# Altium schematic symbol library EitLib.SchLib: 60 symbols (part 2 of 3)
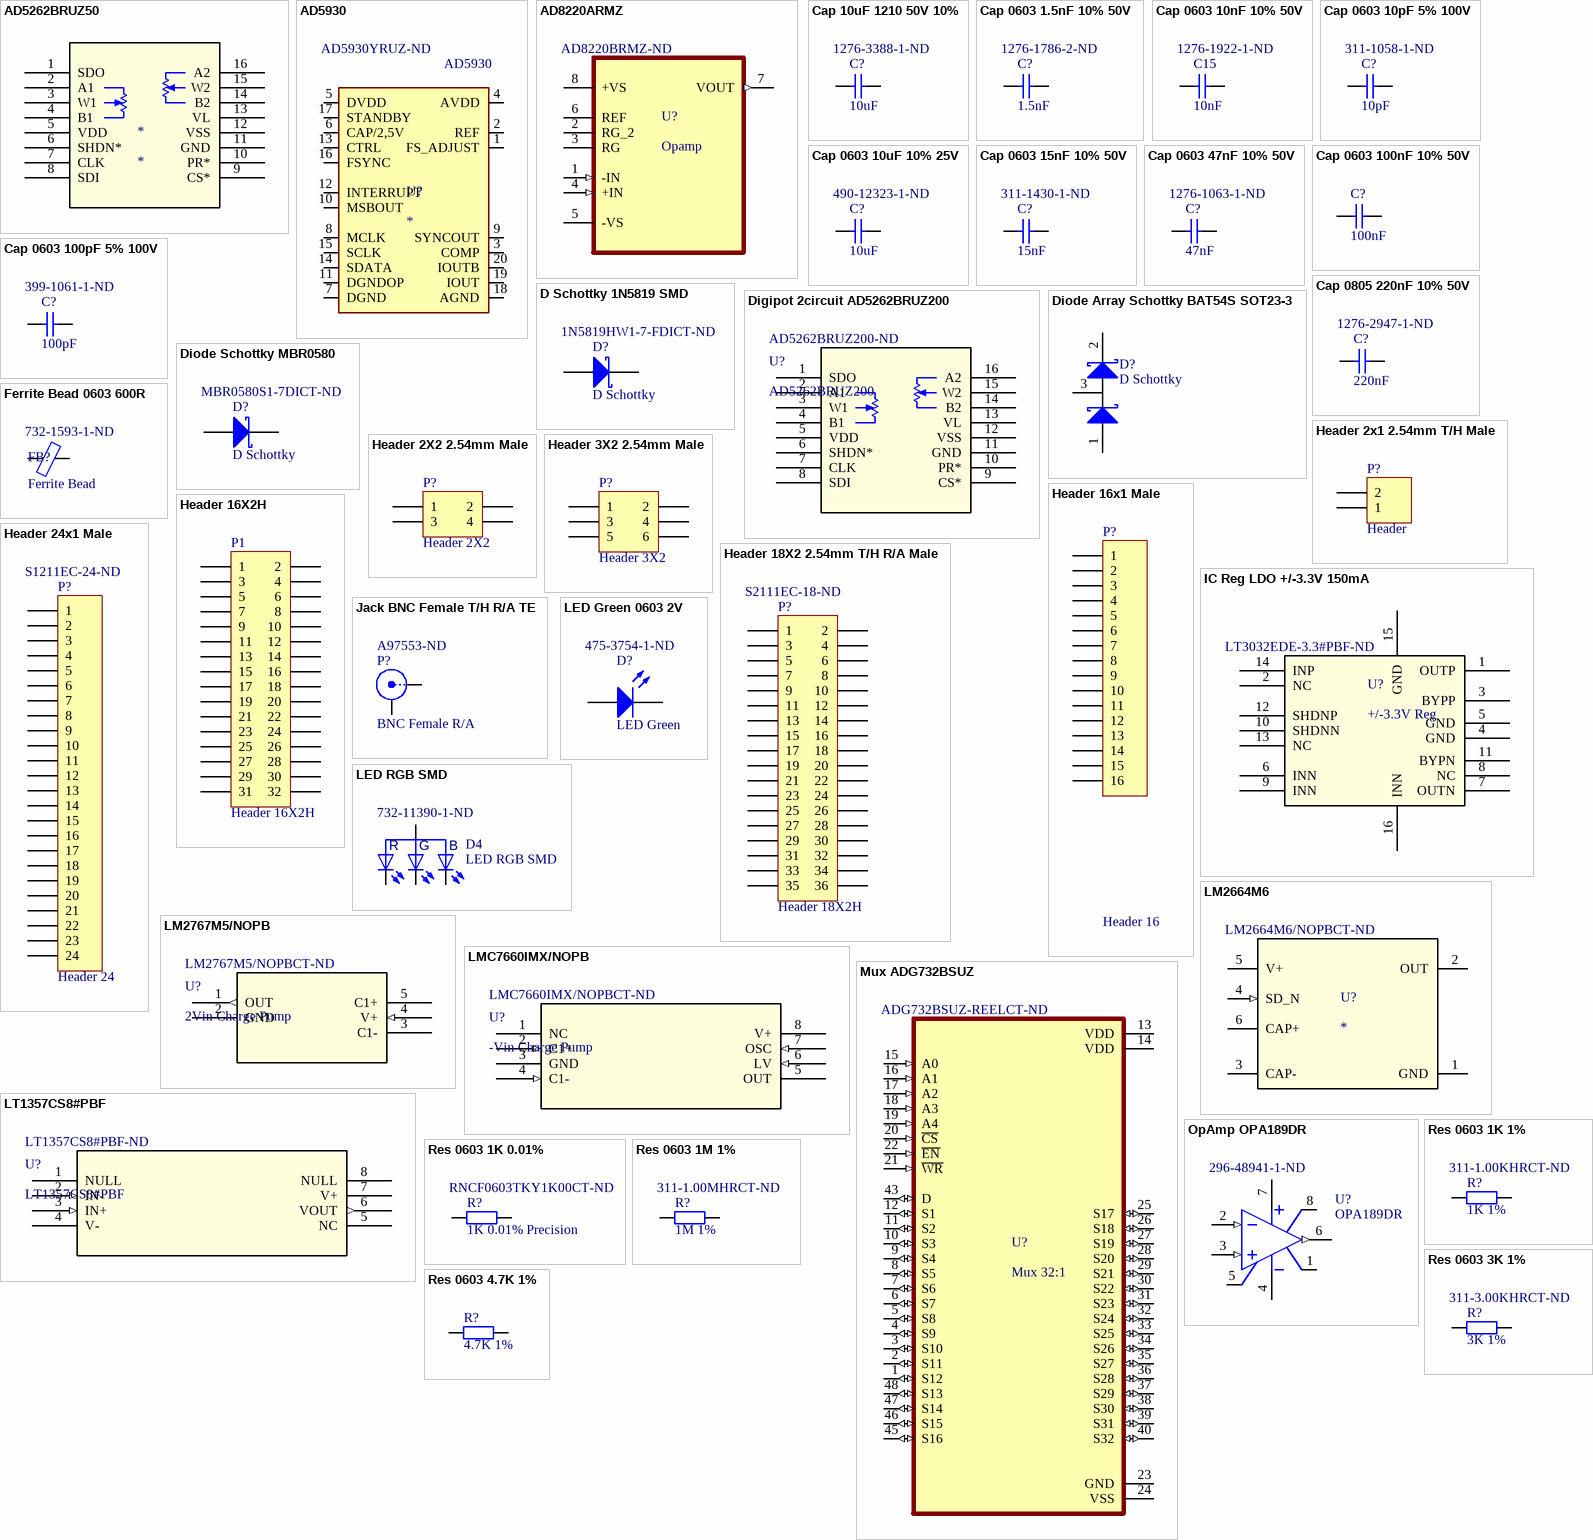
[diagram p2: symbols AD5262BRUZ50 to Res 0603 4.7K 1%]

## LED Green 0603 2V
designator D?, comment LED Green  Supplier Part Number 1: 475-3754-1-ND
LED GREEN DIFFUSED 0603 SMD; Manufacturer: Osram Opto; Manufacturer Part Number: LG Q396-PS-35; Lens Color: White; Luminous Intensity: 163mcd; Test Current: 20mA; Viewing Angle: 120°; Dominant Wavelength: 573nm; Forward Voltage: 2V; Lens Style: Flat,Rectangular; Lens Size: 0.8mm; Supplier 1: Digi-Key; RoHS: Yes; Stock 1: 58559; Pricing 1: 1=0.38000, 10=0.20600, 100=0.09540, 500=0.08808, 1000=0.06900, 2000=0.06754 (USD); Mount: Surface Mount; Case/Package: 0603; Color: Green; Case Code (Imperial): 0603; Case Code (Metric): 1608; Packaging: Tape and Reel; Lens Transparency: Diffused; Forward Current: 20mA; Wavelength: 573nm; Length: 1.6mm; Width: 0.8mm; Height: 0.4mm; RoHS Compliant: Yes; REACH SVHC: No SVHC; ComponentLink1URL: http://www.farnell.com/datasheets/2057314.pdf?src-supplier=Farnell; ComponentLink1Description: http://www.farnell.com/datasheets/2057314.pdf?src-supplier=Farnell; ComponentLink2URL: https://dammedia.osram.info/media/resource/hires/osram-dam-2493948/LG%20Q396.pdf?src-supplier=Digi-Key; ComponentLink2Description: https://dammedia.osram.info/media/resource/hires/osram-dam-2493948/LG%20Q396.pdf?src-supplier=Digi-Key; ComponentLink3URL: http://www.osram-os.com/Graphics/XPic6/00153197_0.pdf?src-supplier=Digi-Key; ComponentLink3Description: http://www.osram-os.com/Graphics/XPic6/00153197_0.pdf?src-supplier=Digi-Key; ComponentLink4URL: http://www.farnell.com/datasheets/2057314.pdf?src-supplier=Element14; ComponentLink4Description: http://www.farnell.com/datasheets/2057314.pdf?src-supplier=Element14; ComponentLink5URL: http://www.farnell.com/datasheets/2057314.pdf?src-supplier=Newark; ComponentLink5Description: http://www.farnell.com/datasheets/2057314.pdf?src-supplier=Newark
simulation model LED2 (Diode)
footprint 0603 LED
pins: 1 A, 2 K

## LED RGB SMD
designator D4  Supplier Part Number 1: 732-11390-1-ND
LED RGB DIFFUSED SMD; Manufacturer: Wurth Electronics; Manufacturer Part Number: 150066M153000; Color: Blue,Green,Red; Lens Style: Flat; Element Configuration: Common Anode; Luminous Intensity: 180mcd; Forward Voltage: 3.3V; Test Current: 20mA; Viewing Angle: 120°; Dominant Wavelength: 470nm; Lens Size: 1.6mm; Supplier 1: Digi-Key; RoHS: Yes; Category: LEDs; Stock 1: 12367; Pricing 1: 1=0.51000, 50=0.41500, 100=0.29800, 500=0.27200 (USD); Mount: Surface Mount; Case/Package: 0606; Case Code (Imperial): 0606; Case Code (Metric): 1616; Packaging: Tape and Reel; Lens Transparency: Diffused; Length: 1.6mm; Width: 1.6mm; Height: 0.5mm; RoHS Compliant: Yes; ComponentLink1URL: http://www.farnell.com/datasheets/2301702.pdf?src-supplier=Farnell; ComponentLink1Description: http://www.farnell.com/datasheets/2301702.pdf?src-supplier=Farnell; ComponentLink2URL: https://katalog.we-online.de/led/datasheet/150066M153000.pdf?src-supplier=Digi-Key; ComponentLink2Description: https://katalog.we-online.de/led/datasheet/150066M153000.pdf?src-supplier=Digi-Key; ComponentLink3URL: http://www.farnell.com/datasheets/2301702.pdf?src-supplier=Newark; ComponentLink3Description: http://www.farnell.com/datasheets/2301702.pdf?src-supplier=Newark; ComponentLink4URL: http://www.farnell.com/datasheets/2301702.pdf?src-supplier=Element14; ComponentLink4Description: http://www.farnell.com/datasheets/2301702.pdf?src-supplier=Element14
footprint LED_RGB
pins: 1 R, 2 G, 3 B, 4 CA

## LM2664M6
designator U?  Supplier Part Number 1: LM2664M6/NOPBCT-ND
1.8V to 5.5Vin Switched Capacitor Voltage Converter 6-SOT-23 -40 to 85; Manufacturer: TI National Semiconductor; Manufacturer Part Number: LM2664M6/NOPB; Output Voltage: -5.5V; Output Current: 40mA; Logic Function: Inverting; Max Supply Voltage: 5.5V; Number of Outputs: 1; Switching Frequency: 160kHz; Output Type: Adjustable; Max Output Voltage: -1.8V; Topology: Buck-Boost; Nominal Supply Current: 500uA; Output Power: 500mW; Max Power Dissipation: 600mW; Supplier 1: Digi-Key; RoHS: Yes; Category: Voltage Regulators - Switching; Stock 1: 18838; Pricing 1: 1=0.95000, 10=0.84000, 25=0.78880, 100=0.59780, 250=0.50880, 500=0.48336 (USD); Mount: Surface Mount; Case/Package: SOT-23; Number of Pins: 6; Min Operating Temperature: -40°C; Max Operating Temperature: 85°C; Min Supply Voltage: 1.8V; Packaging: Tape and Reel; Min Input Voltage: 1.8V; Max Input Voltage: 5.5V; Package Quantity: 1000; Min Output Voltage: -5.5V; Frequency: 160kHz; Max Output Current: 40mA; Termination: SMD/SMT; Length: 2.92mm; Width: 1.6mm; Height: 1.02mm; Radiation Hardening: No; Lead Free: Lead Free; REACH SVHC: No SVHC
footprint DBV0006A_M
pins: 1 GND (power), 2 OUT (power), 3 CAP- (power), 4 SD_N (in), 5 V+ (power), 6 CAP+ (power)

## LM2767M5/NOPB
designator U?, comment 2Vin Charge Pump  Supplier Part Number 1: LM2767M5/NOPBCT-ND
Charge Pump 2Vin 11V; Manufacturer: TI National Semiconductor; Manufacturer Part Number: LM2767M5/NOPB; Max Input Voltage: 5.5V; Output Current: 30mA; Min Input Voltage: 1.8V; Number of Outputs: 1; Max Output Current: 15mA; Switching Frequency: 11kHz; Operating Supply Current: 90uA; Min Output Voltage: 3.6V; Quiescent Current: 40uA; Topology: Boost; Output Type: Adjustable; Supplier 1: Digi-Key; RoHS: Yes; Category: Voltage Regulators - Switching; Stock 1: 34627; Pricing 1: 1=0.91000, 10=0.81600, 25=0.77480, 100=0.59480, 250=0.52564, 500=0.49798 (USD); Mount: Surface Mount; Case/Package: SOT-23; Number of Pins: 5; Weight: 0.000459oz; Contact Plating: Tin,Matte; Min Operating Temperature: -40°C; Max Operating Temperature: 85°C; Output Voltage: 11V; Packaging: Tape and Reel; Min Supply Voltage: 1.8V; Max Supply Voltage: 5.5V; Max Output Voltage: 11V; Series: LM2767; Length: 3mm; Width: 1.68mm; Height: 1.12mm; Radiation Hardening: No; REACH SVHC: No SVHC; Lead Free: Lead Free; RoHS Compliant: Yes; ComponentLink1URL: https://datasheet.ciiva.com/15114/getdatasheetpartid-636131-15114016.pdf?src-supplier=Verical; ComponentLink1Description: https://datasheet.ciiva.com/15114/getdatasheetpartid-636131-15114016.pdf?src-supplier=Verical; ComponentLink2URL: https://datasheet.ciiva.com/25627/0900766b810fa440-25627633.pdf?src-supplier=RSComponents; ComponentLink2Description: https://datasheet.ciiva.com/25627/0900766b810fa440-25627633.pdf?src-supplier=RSComponents; ComponentLink3URL: https://datasheet.ciiva.com/4874/snvs069b-122672-4874873.pdf?src-supplier=Mouser; ComponentLink3Description: https://datasheet.ciiva.com/4874/snvs069b-122672-4874873.pdf?src-supplier=Mouser; ComponentLink4URL: https://datasheet.ciiva.com/6579/lm2767-6579831.pdf?src-supplier=Digi-Key; ComponentLink4Description: https://datasheet.ciiva.com/6579/lm2767-6579831.pdf?src-supplier=Digi-Key; ComponentLink5URL: https://datasheet.ciiva.com/3215/lm2767-3215784.pdf?src-supplier=Avnet; ComponentLink5Description: https://datasheet.ciiva.com/3215/lm2767-3215784.pdf?src-supplier=Avnet; ComponentLink6URL: https://datasheet.ciiva.com/6579/lm2767-6579832.pdf?src-supplier=Digi-Key; ComponentLink6Description: https://datasheet.ciiva.com/6579/lm2767-6579832.pdf?src-supplier=Digi-Key; ComponentLink7URL: https://datasheet.ciiva.com/6579/lm2767-6579833.pdf?src-supplier=Digi-Key; ComponentLink7Description: https://datasheet.ciiva.com/6579/lm2767-6579833.pdf?src-supplier=Digi-Key; ComponentLink8URL: https://datasheet.ciiva.com/3215/lm2767-3215882.pdf?src-supplier=Avnet; ComponentLink8Description: https://datasheet.ciiva.com/3215/lm2767-3215882.pdf?src-supplier=Avnet
footprint SOT-23-5
pins: 1 OUT (out), 2 GND, 3 C1-, 4 V+ (in), 5 C1+

## LMC7660IMX/NOPB
designator U?, comment -Vin Charge Pump  Supplier Part Number 1: LMC7660IMX/NOPBCT-ND
Charge Pump -Vin -10V 8-Pin SOIC T/R; Manufacturer: TI National Semiconductor; Manufacturer Part Number: LMC7660IMX/NOPB; Max Input Voltage: 10V; Min Input Voltage: 1.5V; Number of Outputs: 1; Switching Frequency: 10kHz; Operating Supply Current: 200uA; Max Output Voltage: -1.5V; Logic Function: Inverting; Output Power: 600mW; Quiescent Current: 120uA; Output Current: 20uA; Output Type: Adjustable; Supplier 1: Digi-Key; RoHS: Yes; Category: Voltage Regulators - Switching; Stock 1: 20127; Pricing 1: 1=0.87000, 10=0.78200, 25=0.74200, 100=0.56980, 250=0.50352, 500=0.47700, 1000=0.37100 (USD); Mount: Surface Mount; Case/Package: SOIC N; Number of Pins: 8; Weight: 0.006596oz; Contact Plating: Tin; Min Operating Temperature: -40°C; Max Operating Temperature: 85°C; Output Voltage: -10V; Packaging: Tape and Reel; Min Supply Voltage: 1.5V; Max Supply Voltage: 10V; Min Output Voltage: -10V; Radiation Hardening: No; REACH SVHC: No SVHC; Lead Free: Lead Free; RoHS Compliant: Yes; ComponentLink1URL: https://datasheet.ciiva.com/6598/lmc7660-6598421.pdf?src-supplier=Digi-Key; ComponentLink1Description: https://datasheet.ciiva.com/6598/lmc7660-6598421.pdf?src-supplier=Digi-Key; ComponentLink2URL: https://datasheet.ciiva.com/6598/lmc7660-6598422.pdf?src-supplier=Digi-Key; ComponentLink2Description: https://datasheet.ciiva.com/6598/lmc7660-6598422.pdf?src-supplier=Digi-Key; ComponentLink3URL: https://datasheet.ciiva.com/6598/lmc7660-6598423.pdf?src-supplier=Digi-Key; ComponentLink3Description: https://datasheet.ciiva.com/6598/lmc7660-6598423.pdf?src-supplier=Digi-Key; ComponentLink4URL: https://datasheet.ciiva.com/46433/1841924-46433674.pdf?src-supplier=Element14; ComponentLink4Description: https://datasheet.ciiva.com/46433/1841924-46433674.pdf?src-supplier=Element14
footprint 8-SOIC
pins: 1 NC, 2 C1+ (in), 3 GND (power), 4 C1- (in), 5 OUT (power), 6 LV (in), 7 OSC (in), 8 V+ (power)

## LT1357CS8#PBF
designator U?  Supplier Part Number 1: LT1357CS8#PBF-ND
IC OPAMP VFB 25MHZ 8SO; Manufacturer: Analog Devices / Linear Technology; Vendor: Linear Technology; Built_By: EMA_UL_Team; SourceLibrary: LinearTech_2016_03_08; Slew Rate: 600V/µs; Max Supply Voltage: 36V; Min Supply Voltage: 5V; Number of Circuits: 1; Input Bias Current: 120nA; Input Offset Voltage (Vos): 200uV; Operating Supply Current: 2mA; Output Current per Channel: 30mA; Voltage Gain: 93.06dB; Unity Gain Bandwidth Product: 22MHz; Common Mode Rejection Ratio: 78dB; Min Dual Supply Voltage: 2.5V; Max Dual Supply Voltage: 18V; Power Supply Rejection Ratio (PSRR): 92dB; Power Dissipation: 387mW; Dual Supply Voltage: 3V; Max Supply Current: 2.4mA; Manufacturer_Part_Number: LT1357CS8#PBF; Copyright: Copyright (C) 2018 Accelerated Designs. All rights reserved; RefDes: RefDes; Type: DEV; Supplier 1: Digi-Key; Manufacturer Part Number: LT1357CS8#PBF; RoHS: Yes; Category: Amplifiers - Op Amps, Buffer, Instrumentation; Stock 1: 4499; Pricing 1: 1=6.58000, 10=5.94800, 25=5.67160, 100=4.70320, 250=4.28824, 500=4.01156, 1000=3.65400 (USD); Case/Package: SOIC; Number of Pins: 8; Min Operating Temperature: 0°C; Max Operating Temperature: 70°C; Package Quantity: 100; Packaging: Rail/Tube; Gain Bandwidth Product: 25MHz; Number of Channels: 1; Series: C-Load™; Number of Elements: 1; Nominal Gain Bandwidth Product: 25MHz; Bandwidth: 25MHz; Technology: BIPOLAR; Number of Amplifiers: 1; Max Power Dissipation: 387mW; Supply Current: 2mA; Length: 5mm; Width: 3.99mm; Height: 1.5mm; Lead Free: Lead Free; RoHS Compliant: Yes; REACH SVHC: No SVHC; ComponentLink1URL: https://datasheet.ciiva.com/19464/1734639-19464423.pdf?src-supplier=Jameco; ComponentLink1Description: https://datasheet.ciiva.com/19464/1734639-19464423.pdf?src-supplier=Jameco; ComponentLink2URL: https://datasheet.ciiva.com/26852/lt1357cs8-pbf-26852920.pdf?src-supplier=IIIC; ComponentLink2Description: https://datasheet.ciiva.com/26852/lt1357cs8-pbf-26852920.pdf?src-supplier=IIIC; ComponentLink3URL: https://datasheet.ciiva.com/5704/1599617-5704362.pdf?src-supplier=Farnell; ComponentLink3Description: https://datasheet.ciiva.com/5704/1599617-5704362.pdf?src-supplier=Farnell; ComponentLink4URL: https://datasheet.ciiva.com/14151/tmlt1357xxx-e-14151613.pdf?src-supplier=Distrelec; ComponentLink4Description: https://datasheet.ciiva.com/14151/tmlt1357xxx-e-14151613.pdf?src-supplier=Distrelec
footprint SO-8_S_LIT
pins: 1 NULL, 2 IN- (in), 3 IN+ (in), 4 V- (power), 5 NC, 6 VOUT (out), 7 V+ (power), 8 NULL

## Mux ADG732BSUZ
designator U?, comment Mux 32:1  Supplier Part Number 1: ADG732BSUZ-REELCT-ND
Analog Multiplexer Single 32:1 48-Pin TQFP T/R; Manufacturer: Analog Devices; Manufacturer Part Number: ADG732BSUZ-REEL; Min Supply Voltage: 1.8V; Max Supply Voltage: 5.5V; Number of Inputs: 32; Number of Outputs: 1; Operating Supply Voltage: 5V; Dual Supply Voltage: 2.5V; Bandwidth: 18MHz; Max Power Dissipation: 100uW; On-State Resistance: 5.5R; Operating Supply Current: 10uA; Turn-Off Delay Time: 16ns; Supply Type: Single,Dual; Interface: Parallel; Supplier 1: Digi-Key; RoHS: Yes; Category: Interface ICs; Stock 1: 3425; Pricing 1: 1=12.59000, 10=11.37200, 25=10.84320, 100=9.41510, 250=8.99200, 500=8.19856, 1000=7.48500 (USD); Case/Package: TQFP; Number of Pins: 48; Min Operating Temperature: -40°C; Max Operating Temperature: 85°C; Number of Channels: 32; Package Quantity: 2000; Packaging: Tape and Reel; Number of Circuits: 1; -3db Bandwidth: 18MHz; Logic Function: Multiplexer; Series: -; Lead Free: Contains Lead; RoHS Compliant: Yes; ComponentLink1URL: https://datasheet.ciiva.com/26824/adg732bsuz-reel-26824926.pdf?src-supplier=IIIC; ComponentLink1Description: https://datasheet.ciiva.com/26824/adg732bsuz-reel-26824926.pdf?src-supplier=IIIC; ComponentLink2URL: https://datasheet.ciiva.com/16637/adg726-732-16637530.pdf?src-supplier=Avnet+Europe; ComponentLink2Description: https://datasheet.ciiva.com/16637/adg726-732-16637530.pdf?src-supplier=Avnet+Europe
footprint QFP50P900X900X120-49N
pins: 1 S12 (io), 2 S11 (io), 3 S10 (io), 4 S9 (io), 5 S8 (io), 6 S7 (io), 7 S6 (io), 8 S5 (io), 9 S4 (io), 10 S3 (io), 11 S2 (io), 12 S1 (io), 13 VDD (power), 14 VDD (power), 15 A0 (in), 16 A1 (in), 17 A2 (in), 18 A3 (in), 19 A4 (in), 20 ~{CS} (in), 21 ~{WR} (in), 22 ~{EN} (in), 23 GND (power), 24 VSS (power), 25 S17 (io), 26 S18 (io), 27 S19 (io), 28 S20 (io), 29 S21 (io), 30 S22 (io), 31 S23 (io), 32 S24 (io), 33 S25 (io), 34 S26 (io), 35 S27 (io), 36 S28 (io), 37 S29 (io), 38 S30 (io), 39 S31 (io), 40 S32 (io), 43 D (io), 45 S16 (io), 46 S15 (io), 47 S14 (io), 48 S13 (io)

## OpAmp OPA189DR
designator U?, comment OPA189DR  Supplier Part Number 1: 296-48941-1-ND
36V ZERO DRIFT OP-AMP; Manufacturer: Texas Instruments; Manufacturer Part Number: OPA189IDR; Number of Channels: 1; Slew Rate: 20V/µs; Gain Bandwidth Product: 14MHz; Input Bias Current: 70pA; Input Offset Voltage (Vos): 0.4uV; Operating Supply Current: 1.3mA; Supplier 1: Digi-Key; RoHS: Yes; Category: Amplifiers - Op Amps, Buffer, Instrumentation; Stock 1: 9768; Pricing 1: 1=2.85000, 10=2.56500, 25=2.41960, 100=2.06140, 250=1.93556, 500=1.69362, 1000=1.52471 (USD); Mount: Surface Mount; Case/Package: SOIC; Number of Pins: 8; Min Operating Temperature: -40°C; Max Operating Temperature: 125°C; Packaging: Tape and Reel; Number of Circuits: 1; RoHS Compliant: Yes; ComponentLink1URL: http://www.ti.com/lit/ds/symlink/opa189.pdf?src-supplier=Digi-Key; ComponentLink1Description: http://www.ti.com/lit/ds/symlink/opa189.pdf?src-supplier=Digi-Key
simulation model AD645A (Spice Subcircuit)
footprint 8-SOIC
pins: 1 OS NUL, 2 IN- (in), 3 IN+ (in), 4 V- (power), 5 OS NUL, 6 OUT (out), 7 V+ (power), 8 TAB

## Res 0603 1K 0.01%
designator R?, comment 1K 0.01% Precision  Supplier Part Number 1: RNCF0603TKY1K00CT-ND
RES 1K OHM 0.01% 1/10W 0603; Manufacturer: Stackpole Electronics; Manufacturer Part Number: RNCF0603TKY1K00; Resistance: 1kR; Max Power Dissipation: 100mW; Temperature Coefficient: 5ppm/°C; Supplier 1: Digi-Key; RoHS: Yes; Category: Chip SMD Resistors; Stock 1: 31380; Pricing 1: 1=1.86000, 10=1.65000, 100=1.26000 (USD); Mount: Surface Mount; Case/Package: 0603; Case Code (Metric): 1608; Case Code (Imperial): 0603; Min Operating Temperature: -55°C; Max Operating Temperature: 155°C; Tolerance: 0.01%; Packaging: Tape and Reel; Resistor Type: Thin Film; Number of Terminations: 2; Features: Moisture Resistant; Series: RNCF; Length: 0.063inch; Width: 0.031inch; Height: 0.022inch; Lead Free: Lead Free; RoHS Compliant: Yes; ComponentLink1URL: https://www.seielect.com/catalog/SEI-Packaging.pdf?src-supplier=Digi-Key; ComponentLink1Description: https://www.seielect.com/catalog/SEI-Packaging.pdf?src-supplier=Digi-Key
footprint 0603 RES
simulation model RESISTOR (Resistor)
signal-integrity model Res
pins: 1, 2

## Res 0603 1K 1%
designator R?, comment 1K 1%  Supplier Part Number 1: 311-1.00KHRCT-ND
RES SMD 1K OHM 1% 1/10W 0603; Manufacturer: Yageo; Manufacturer Part Number: RC0603FR-071KL; Power Rating: 100mW; Resistance: 1kR; Voltage Rating: 50V; Temperature Coefficient: 100ppm/°C; Supplier 1: Digi-Key; RoHS: Yes; Category: Chip SMD Resistors; Stock 1: 23578085; Pricing 1: 1=0.10000, 10=0.02400, 100=0.00970, 1000=0.00436, 2500=0.00378 (USD); Case/Package: 0603; Case Code (Imperial): 0603; Case Code (Metric): 1608; Size Code: 0603; Contact Plating: Tin,Matte; Min Operating Temperature: -55°C; Max Operating Temperature: 155°C; Tolerance: 1%; Packaging: Tape and Reel; Termination: SMD/SMT; Resistor Type: Thick Film; Features: Moisture Resistant; Series: RC; Max Power Dissipation: 100mW; Number of Terminations: 2; Resistance Tolerance: 1%; Construction: Rectangular; Technology: THICK FILM; Length: 1.6mm; Height: 0.45mm; Depth: 0.8mm; Radiation Hardening: No; REACH SVHC: No SVHC; Military Standard: Not; Lead Free: Lead Free; RoHS Compliant: Yes; ComponentLink1URL: https://datasheet.ciiva.com/8896/pyu-rc0603-51-rohs-l-4-8896106.pdf?src-supplier=Avnet; ComponentLink1Description: https://datasheet.ciiva.com/8896/pyu-rc0603-51-rohs-l-4-8896106.pdf?src-supplier=Avnet
footprint 0603 RES
simulation model RESISTOR (Resistor)
signal-integrity model Res
pins: 1, 2

## Res 0603 1M 1%
designator R?, comment 1M 1%  Supplier Part Number 1: 311-1.00MHRCT-ND
Yageo RC Series Thick Film Surface Mount Resistor 0603 Case 1M 1% 0.1W 100ppm/C; Manufacturer Part Number: RC0603FR-071ML; Voltage Rating: 75V; Voltage Rating (DC): 50V; Resistance: 1MR; Power Rating: 100mW; Temperature Coefficient: 100ppm/°C; Application(s): HIGH RELIABILITY; Supplier 1: Digi-Key; Manufacturer: Yageo; RoHS: Yes; Category: Chip SMD Resistors; Stock 1: 4599128; Pricing 1: 1=0.10000, 10=0.02400, 100=0.00970, 1000=0.00436, 2500=0.00378 (USD); Case/Package: 0603; Number of Pins: 2; Case Code (Imperial): 0603; Case Code (Metric): 1608; Weight: 0.000847oz; Min Operating Temperature: -55°C; Max Operating Temperature: 155°C; Tolerance: 1%; Packaging: Cut Tape; Package Quantity: 5000; Termination: SMD/SMT; Resistor Type: Thick Film; Series: RC; Technology: THICK FILM; Type: General Purpose; Length: 1.6mm; Width: 0.8mm; Height: 0.45mm; Depth: 0.8mm; REACH SVHC: No SVHC; Military Standard: Not; Lead Free: Lead Free; RoHS Compliant: Yes; ComponentLink1URL: https://datasheet.ciiva.com/11819/0900766b80f96399-11819295.pdf?src-supplier=RSComponents; ComponentLink1Description: https://datasheet.ciiva.com/11819/0900766b80f96399-11819295.pdf?src-supplier=RSComponents; ComponentLink2URL: https://datasheet.ciiva.com/12555/rc0603-272842-12555388.pdf?src-supplier=Mouser; ComponentLink2Description: https://datasheet.ciiva.com/12555/rc0603-272842-12555388.pdf?src-supplier=Mouser
footprint 0603 RES
simulation model RESISTOR (Resistor)
signal-integrity model Res
pins: 1, 2

## Res 0603 3K 1%
designator R?, comment 3K 1%  Supplier Part Number 1: 311-3.00KHRCT-ND
Res Thick Film 0603 3K Ohm 1% 0.1W(1/10W) ±100ppm/C Pad SMD T/R; Manufacturer: Yageo; Manufacturer Part Number: RC0603FR-073KL; Resistance: 3kR; Power Rating: 100mW; Voltage Rating: 50V; Temperature Coefficient: 100ppm/°C; Supplier 1: Digi-Key; RoHS: Yes; Category: Chip SMD Resistors; Stock 1: 1025416; Pricing 1: 1=0.10000, 10=0.02400, 100=0.00970, 1000=0.00436, 2500=0.00378 (USD); Case/Package: 0603; Number of Pins: 2; Case Code (Imperial): 0603; Case Code (Metric): 1608; Size Code: 0603; Min Operating Temperature: -55°C; Max Operating Temperature: 155°C; Tolerance: 1%; Packaging: Tape and Reel; Termination: SMD/SMT; Resistor Type: Thick Film; Voltage Rating (DC): 50V; Features: Moisture Resistant; Series: RC; Max Power Dissipation: 100mW; Number of Terminations: 2; Construction: Rectangular; Resistance Tolerance: 1%; Length: 1.6mm; Width: 800um; Depth: 0.8mm; Military Standard: Not; Lead Free: Lead Free; RoHS Compliant: Yes; REACH SVHC: No SVHC; ComponentLink1URL: http://www.mouser.com/ds/2/447/RC0603-272842.pdf?src-supplier=Mouser; ComponentLink1Description: http://www.mouser.com/ds/2/447/RC0603-272842.pdf?src-supplier=Mouser; ComponentLink2URL: http://www.farnell.com/datasheets/2167052.pdf?src-supplier=Farnell; ComponentLink2Description: http://www.farnell.com/datasheets/2167052.pdf?src-supplier=Farnell; ComponentLink3URL: https://www.verical.com/server-webapp/html/getDatasheet?partID=135099&src-supplier=Verical; ComponentLink3Description: https://www.verical.com/server-webapp/html/getDatasheet?partID=135099&src-supplier=Verical; ComponentLink4URL: http://components.arrow.com/part/dataview/0323_00200942?src-supplier=Arrow+Europe; ComponentLink4Description: http://components.arrow.com/part/dataview/0323_00200942?src-supplier=Arrow+Europe; ComponentLink5URL: http://www.yageo.com/documents/recent/PYu-RC_Group_51_RoHS_L_9.pdf?src-supplier=Digi-Key; ComponentLink5Description: http://www.yageo.com/documents/recent/PYu-RC_Group_51_RoHS_L_9.pdf?src-supplier=Digi-Key; ComponentLink6URL: http://www.yageo.com/documents/recent/PYu-RC_Group_51_RoHS_L_10.pdf?src-supplier=Digi-Key; ComponentLink6Description: http://www.yageo.com/documents/recent/PYu-RC_Group_51_RoHS_L_10.pdf?src-supplier=Digi-Key; ComponentLink7URL: http://www.farnell.com/datasheets/1868787.pdf?src-supplier=Newark; ComponentLink7Description: http://www.farnell.com/datasheets/1868787.pdf?src-supplier=Newark; ComponentLink8URL: http://www.yageo.com/documents/recent/PYu-RC0603_51_RoHS_L_7.pdf?src-supplier=Future+Electronics; ComponentLink8Description: http://www.yageo.com/documents/recent/PYu-RC0603_51_RoHS_L_7.pdf?src-supplier=Future+Electronics; ComponentLink9URL: http://www.farnell.com/datasheets/2167052.pdf?src-supplier=Element14; ComponentLink9Description: http://www.farnell.com/datasheets/2167052.pdf?src-supplier=Element14
footprint 0603 RES
simulation model RESISTOR (Resistor)
signal-integrity model Res
pins: 1, 2

## Res 0603 4.7K 1%
designator R?, comment 4.7K 1%
RES SMD 4.7K OHM 1% 1/10W 0603; Manufacturer: Yageo; Manufacturer Part Number: RC0603FR-074K7L; Resistance: 4.7kR; Voltage Rating (DC): 50V; Temperature Coefficient: 100ppm/°C; Power Rating: 100mW; Supplier 1: Digi-Key; RoHS: Yes; Category: Chip SMD Resistors; Stock 1: 7608467; Pricing 1: 1=0.10000, 10=0.02400, 100=0.00970, 1000=0.00436, 2500=0.00378 (USD); Case/Package: 0603; Number of Pins: 2; Case Code (Imperial): 0603; Case Code (Metric): 1608; Size Code: 0603; Min Operating Temperature: -55°C; Max Operating Temperature: 155°C; Packaging: Tape and Reel; Tolerance: 1%; Resistor Type: Thick Film; Voltage Rating: 50V; Termination: SMD/SMT; Features: Moisture Resistant; Series: RC; Max Power Dissipation: 100mW; Number of Terminations: 2; Construction: Rectangular; Resistance Tolerance: 1%; Length: 1.6mm; Width: 0.8mm; Height: 0.45mm; Depth: 0.8mm; Lead Pitch: 0.3mm; REACH SVHC: No SVHC; Lead Free: Lead Free; Military Standard: Not; RoHS Compliant: Yes; ComponentLink1URL: https://datasheet.ciiva.com/15189/getdatasheetpartid-422754-15189760.pdf?src-supplier=Verical; ComponentLink1Description: https://datasheet.ciiva.com/15189/getdatasheetpartid-422754-15189760.pdf?src-supplier=Verical; ComponentLink2URL: https://datasheet.ciiva.com/22747/443971-22747528.pdf?src-supplier=Element14; ComponentLink2Description: https://datasheet.ciiva.com/22747/443971-22747528.pdf?src-supplier=Element14; ComponentLink3URL: https://datasheet.ciiva.com/7746/1868787-7746365.pdf?src-supplier=Element14; ComponentLink3Description: https://datasheet.ciiva.com/7746/1868787-7746365.pdf?src-supplier=Element14; ComponentLink4URL: https://datasheet.ciiva.com/7746/1738695-7746366.pdf?src-supplier=Element14; ComponentLink4Description: https://datasheet.ciiva.com/7746/1738695-7746366.pdf?src-supplier=Element14; ComponentLink5URL: https://datasheet.ciiva.com/46440/1868787-46440909.pdf?src-supplier=Element14; ComponentLink5Description: https://datasheet.ciiva.com/46440/1868787-46440909.pdf?src-supplier=Element14; ComponentLink6URL: https://datasheet.ciiva.com/7660/38590-7660794.pdf?src-supplier=Element14; ComponentLink6Description: https://datasheet.ciiva.com/7660/38590-7660794.pdf?src-supplier=Element14; Supplier Part Number 1: 311-4.70KHRCT-ND
footprint 0603 RES
simulation model RESISTOR (Resistor)
signal-integrity model Res
pins: 1, 2

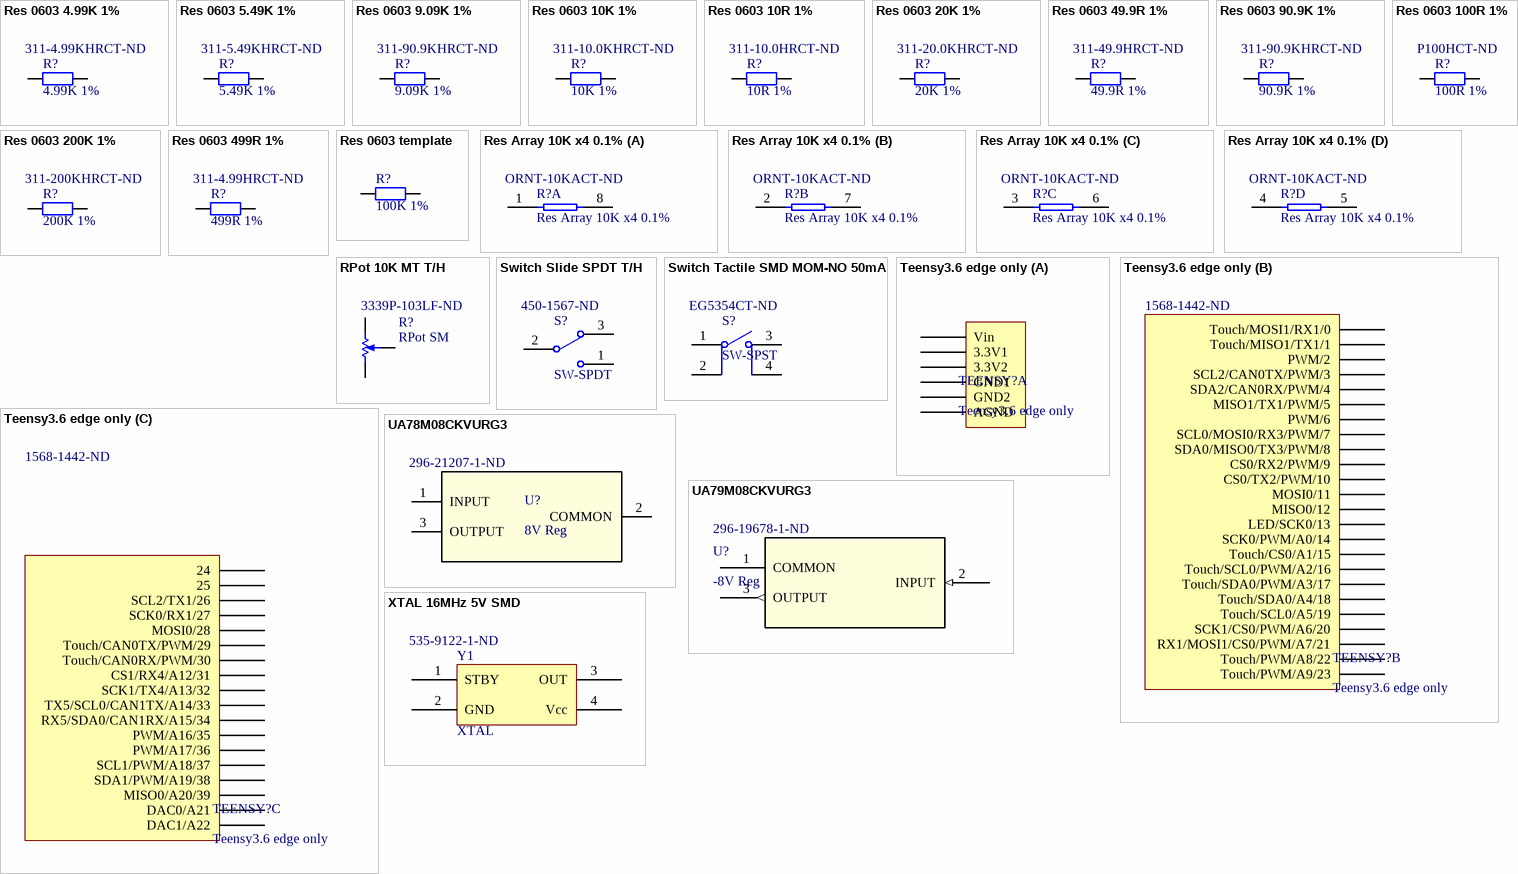
[diagram p1: symbols Res 0603 4.99K 1% to XTAL 16MHz 5V SMD]

## Res 0603 4.99K 1%
designator R?, comment 4.99K 1%  Supplier Part Number 1: 311-4.99KHRCT-ND
YAGEO - RC0603FR-074K99L - RES, THICK FILM, 4K99, 1%, 0.1W, 0603, REEL; Resistance: 4.99kR; Voltage Rating: 75V; Power Rating: 100mW; Temperature Coefficient: 100ppm/°C; Voltage Rating (DC): 50V; Supplier 1: Digi-Key; Manufacturer: Yageo; Manufacturer Part Number: RC0603FR-074K99L; RoHS: Yes; Category: Chip SMD Resistors; Stock 1: 1244920; Pricing 1: 1=0.10000, 10=0.02400, 100=0.00970, 1000=0.00436, 2500=0.00378 (USD); Case/Package: 0603; Number of Pins: 2; Case Code (Imperial): 0603; Case Code (Metric): 1608; Size Code: 0603; Weight: 7.1E-05oz; Min Operating Temperature: -55°C; Max Operating Temperature: 155°C; Packaging: Tape and Reel; Tolerance: 1%; Package Quantity: 1; Termination: SMD/SMT; Resistor Type: Thick Film; Number of Terminations: 2; Max Power Dissipation: 100mW; Features: Moisture Resistant; Series: RC; Construction: Rectangular; Resistance Tolerance: 1%; Length: 1.6mm; Width: 0.8mm; Height: 0.022inch; Depth: 0.8mm; Military Standard: Not; Lead Free: Lead Free; RoHS Compliant: Yes; REACH SVHC: Unknown; ComponentLink1URL: https://datasheet.ciiva.com/2453/pyu-r-int-thick-7-2453979.pdf?src-supplier=Digi-Key; ComponentLink1Description: https://datasheet.ciiva.com/2453/pyu-r-int-thick-7-2453979.pdf?src-supplier=Digi-Key; ComponentLink2URL: https://datasheet.ciiva.com/2453/pyu-r-int-thick-7-2453980.pdf?src-supplier=Digi-Key; ComponentLink2Description: https://datasheet.ciiva.com/2453/pyu-r-int-thick-7-2453980.pdf?src-supplier=Digi-Key; ComponentLink3URL: https://datasheet.ciiva.com/2453/pyu-r-int-thick-7-2453981.pdf?src-supplier=Digi-Key; ComponentLink3Description: https://datasheet.ciiva.com/2453/pyu-r-int-thick-7-2453981.pdf?src-supplier=Digi-Key; ComponentLink4URL: https://datasheet.ciiva.com/7983/443971-7983646.pdf?src-supplier=Element14; ComponentLink4Description: https://datasheet.ciiva.com/7983/443971-7983646.pdf?src-supplier=Element14; ComponentLink5URL: https://datasheet.ciiva.com/22747/443971-22747529.pdf?src-supplier=Element14; ComponentLink5Description: https://datasheet.ciiva.com/22747/443971-22747529.pdf?src-supplier=Element14
footprint 0603 RES
simulation model RESISTOR (Resistor)
signal-integrity model Res
pins: 1, 2

## Res 0603 5.49K 1%
designator R?, comment 5.49K 1%  Supplier Part Number 1: 311-5.49KHRCT-ND
Resistor;Resistance:5K49ohm;Resistance Tolerance:± 1%;Resistor Element Material:Thick Film;Resistor Case Style:0603; Manufacturer: Yageo; Manufacturer Part Number: RC0603FR-075K49L; Power Rating: 100mW; Resistance: 5.49kR; Voltage Rating: 50V; Temperature Coefficient: 100ppm/°C; Supplier 1: Digi-Key; RoHS: Yes; Category: Chip SMD Resistors; Stock 1: 713644; Pricing 1: 1=0.10000, 10=0.02400, 100=0.00970, 1000=0.00436, 2500=0.00378 (USD); Case/Package: 0603; Case Code (Imperial): 0603; Case Code (Metric): 1608; Size Code: 0603; Min Operating Temperature: -55°C; Max Operating Temperature: 155°C; Tolerance: 1%; Packaging: Tape and Reel; Termination: SMD/SMT; Resistor Type: Thick Film; Number of Terminations: 2; Max Power Dissipation: 100mW; Voltage Rating (DC): 50V; Features: Moisture Resistant; Series: RC; Construction: Rectangular; Package Quantity: 1; Length: 1.6mm; Width: 0.8mm; Height: 0.022inch; Depth: 0.8mm; Military Standard: Not; Lead Free: Lead Free; RoHS Compliant: Yes; ComponentLink1URL: https://datasheet.ciiva.com/2454/pyu-r-int-thick-7-2454378.pdf?src-supplier=Digi-Key; ComponentLink1Description: https://datasheet.ciiva.com/2454/pyu-r-int-thick-7-2454378.pdf?src-supplier=Digi-Key; ComponentLink2URL: https://datasheet.ciiva.com/2454/pyu-r-int-thick-7-2454379.pdf?src-supplier=Digi-Key; ComponentLink2Description: https://datasheet.ciiva.com/2454/pyu-r-int-thick-7-2454379.pdf?src-supplier=Digi-Key; ComponentLink3URL: https://datasheet.ciiva.com/2454/pyu-r-int-thick-7-2454380.pdf?src-supplier=Digi-Key; ComponentLink3Description: https://datasheet.ciiva.com/2454/pyu-r-int-thick-7-2454380.pdf?src-supplier=Digi-Key; ComponentLink4URL: https://datasheet.ciiva.com/12558/rc0603-272842-12558872.pdf?src-supplier=Mouser; ComponentLink4Description: https://datasheet.ciiva.com/12558/rc0603-272842-12558872.pdf?src-supplier=Mouser
footprint 0603 RES
simulation model RESISTOR (Resistor)
signal-integrity model Res
pins: 1, 2

## Res 0603 9.09K 1%
designator R?, comment 9.09K 1%  Supplier Part Number 1: 311-90.9KHRCT-ND
Res Thick Film 0603 90.9K Ohm 1% 0.1W(1/10W) ±100ppm/C Epoxy SMD T/R; Manufacturer: Yageo; Manufacturer Part Number: RC0603FR-0790K9L; Resistance: 90.9kR; Voltage Rating (DC): 50V; Power Rating: 100mW; Voltage Rating: 75V; Temperature Coefficient: 100ppm/°C; Supplier 1: Digi-Key; RoHS: Yes; Category: Chip SMD Resistors; Stock 1: 655755; Pricing 1: 1=0.10000, 10=0.02400, 100=0.00970, 1000=0.00436, 2500=0.00378 (USD); Case/Package: 0603; Case Code (Imperial): 0603; Case Code (Metric): 1608; Weight: 7.1E-05oz; Size Code: 0603; Min Operating Temperature: -55°C; Max Operating Temperature: 155°C; Tolerance: 1%; Packaging: Tape and Reel; Features: Moisture Resistant; Series: RC; Termination: SMD/SMT; Resistor Type: Thick Film; Max Power Dissipation: 100mW; Number of Terminations: 2; Construction: Rectangular; Length: 1.6mm; Width: 0.8mm; Height: 0.45mm; Depth: 0.8mm; Lead Free: Lead Free; RoHS Compliant: Yes; Military Standard: Not; ComponentLink1URL: https://datasheet.ciiva.com/15189/getdatasheetpartid-325203-15189835.pdf?src-supplier=Verical; ComponentLink1Description: https://datasheet.ciiva.com/15189/getdatasheetpartid-325203-15189835.pdf?src-supplier=Verical
footprint 0603 RES
simulation model RESISTOR (Resistor)
signal-integrity model Res
pins: 1, 2

## Res 0603 10K 1%
designator R?, comment 10K 1%  Supplier Part Number 1: 311-10.0KHRCT-ND
Res General Purpose Thick Film 0603 10K Ohm 1% 1/10W ±100ppm/°C Molded SMD Paper T/R; Manufacturer: Yageo; Manufacturer Part Number: RC0603FR-0710KL; Voltage Rating: 75V; Resistance: 10kR; Power Rating: 100mW; Voltage Rating (DC): 50V; Supplier 1: Digi-Key; RoHS: Yes; Category: Chip SMD Resistors; Stock 1: 18430741; Pricing 1: 1=0.10000, 10=0.02400, 100=0.00970, 1000=0.00436, 2500=0.00378 (USD); Case/Package: 0603; Number of Pins: 2; Case Code (Imperial): 0603; Case Code (Metric): 1608; Size Code: 0603; Weight: 7.1E-05oz; Min Operating Temperature: -55°C; Max Operating Temperature: 155°C; Packaging: Tape and Reel; Tolerance: 1%; Termination: SMD/SMT; Resistor Type: Thick Film; Temperature Coefficient: 100ppm/°C; Features: Moisture Resistant; Series: RC; Max Power Dissipation: 100mW; Number of Terminations: 2; Resistance Tolerance: 1%; Construction: Rectangular; Length: 1.6mm; Width: 0.8mm; Height: 0.45mm; Depth: 0.8mm; Lead Pitch: 0.3mm; REACH SVHC: Unknown; Military Standard: Not; Lead Free: Lead Free; RoHS Compliant: Yes; ComponentLink1URL: https://datasheet.ciiva.com/15189/getdatasheetpartid-409289-15189591.pdf?src-supplier=Verical; ComponentLink1Description: https://datasheet.ciiva.com/15189/getdatasheetpartid-409289-15189591.pdf?src-supplier=Verical; ComponentLink2URL: https://datasheet.ciiva.com/7660/38590-7660789.pdf?src-supplier=Element14; ComponentLink2Description: https://datasheet.ciiva.com/7660/38590-7660789.pdf?src-supplier=Element14; ComponentLink3URL: https://datasheet.ciiva.com/7746/1738695-7746239.pdf?src-supplier=Element14; ComponentLink3Description: https://datasheet.ciiva.com/7746/1738695-7746239.pdf?src-supplier=Element14; ComponentLink4URL: https://datasheet.ciiva.com/7983/443971-7983596.pdf?src-supplier=Element14; ComponentLink4Description: https://datasheet.ciiva.com/7983/443971-7983596.pdf?src-supplier=Element14; ComponentLink5URL: https://datasheet.ciiva.com/22747/443971-22747519.pdf?src-supplier=Element14; ComponentLink5Description: https://datasheet.ciiva.com/22747/443971-22747519.pdf?src-supplier=Element14; ComponentLink6URL: https://datasheet.ciiva.com/46440/1868787-46440891.pdf?src-supplier=Element14; ComponentLink6Description: https://datasheet.ciiva.com/46440/1868787-46440891.pdf?src-supplier=Element14
footprint 0603 RES
simulation model RESISTOR (Resistor)
signal-integrity model Res
pins: 1, 2

## Res 0603 10R 1%
designator R?, comment 10R 1%  Supplier Part Number 1: 311-10.0HRCT-ND
YAGEO (PHYCOMP) - RC0603FR-0710RL - RES, THICK FILM, 10R, 1%, 0.1W, 0603; Power Rating: 100mW; Voltage Rating: 50V; Temperature Coefficient: 200ppm/°C; Supplier 1: Digi-Key; Manufacturer: Yageo; Manufacturer Part Number: RC0603FR-0710RL; RoHS: Yes; Category: Chip SMD Resistors; Stock 1: 5330199; Pricing 1: 1=0.10000, 10=0.04800, 100=0.01940, 1000=0.00872, 2500=0.00756 (USD); Case/Package: 0603; Number of Pins: 2; Case Code (Imperial): 0603; Case Code (Metric): 1608; Size Code: 0603; Contact Plating: Tin,Matte; Min Operating Temperature: -55°C; Max Operating Temperature: 155°C; Packaging: Tape and Reel; Resistance: 10R; Tolerance: 1%; Voltage Rating (DC): 50V; Termination: SMD/SMT; Resistor Type: Thick Film; Features: Moisture Resistant; Series: RC; Max Power Dissipation: 100mW; Number of Terminations: 2; Resistance Tolerance: 1%; Technology: THICK FILM; Construction: Rectangular; Length: 1.6mm; Width: 0.8mm; Height: 0.45mm; Depth: 0.8mm; Radiation Hardening: No; REACH SVHC: No SVHC; Lead Free: Lead Free; RoHS Compliant: Yes; Military Standard: Not; ComponentLink1URL: https://datasheet.ciiva.com/11808/0900766b80f96399-11808140.pdf?src-supplier=RSComponents; ComponentLink1Description: https://datasheet.ciiva.com/11808/0900766b80f96399-11808140.pdf?src-supplier=RSComponents; ComponentLink2URL: https://datasheet.ciiva.com/8891/pyu-rc0603-51-rohs-l-4-8891285.pdf?src-supplier=Avnet; ComponentLink2Description: https://datasheet.ciiva.com/8891/pyu-rc0603-51-rohs-l-4-8891285.pdf?src-supplier=Avnet; ComponentLink3URL: https://datasheet.ciiva.com/28386/pyu-rc0603-51-rohs-l-4-28386637.pdf?src-supplier=Avnet+Europe; ComponentLink3Description: https://datasheet.ciiva.com/28386/pyu-rc0603-51-rohs-l-4-28386637.pdf?src-supplier=Avnet+Europe; ComponentLink4URL: https://datasheet.ciiva.com/7746/443971-7746245.pdf?src-supplier=Element14; ComponentLink4Description: https://datasheet.ciiva.com/7746/443971-7746245.pdf?src-supplier=Element14
footprint 0603 RES
simulation model RESISTOR (Resistor)
signal-integrity model Res
pins: 1, 2

## Res 0603 20K 1%
designator R?, comment 20K 1%  Supplier Part Number 1: 311-20.0KHRCT-ND
Res General Purpose Thick Film 0603 20K Ohm 1% 1/10W ±100ppm/°C Molded SMD Paper T/R; Manufacturer: Yageo; Manufacturer Part Number: RC0603FR-0720KL; Resistance: 20kR; Voltage Rating (DC): 50V; Power Rating: 100mW; Supplier 1: Digi-Key; RoHS: Yes; Category: Chip SMD Resistors; Stock 1: 2390662; Pricing 1: 1=0.10000, 10=0.02400, 100=0.00970, 1000=0.00436, 2500=0.00378 (USD); Case/Package: 0603; Number of Pins: 2; Case Code (Imperial): 0603; Case Code (Metric): 1608; Size Code: 0603; Min Operating Temperature: -55°C; Max Operating Temperature: 155°C; Packaging: Tape and Reel; Tolerance: 1%; Resistor Type: Thick Film; Temperature Coefficient: 100ppm/°C; Voltage Rating: 50V; Package Quantity: 1; Termination: SMD/SMT; Number of Terminations: 2; Max Power Dissipation: 100mW; Features: Moisture Resistant; Series: RC; Construction: Rectangular; Resistance Tolerance: 1%; Technology: THICK FILM; Length: 0.063inch; Width: 0.031inch; Height: 0.022inch; Depth: 0.8mm; Lead Free: Lead Free; REACH SVHC: No SVHC; Military Standard: Not; RoHS Compliant: Yes; ComponentLink1URL: https://datasheet.ciiva.com/11808/0900766b80f96399-11808275.pdf?src-supplier=RSComponents; ComponentLink1Description: https://datasheet.ciiva.com/11808/0900766b80f96399-11808275.pdf?src-supplier=RSComponents; ComponentLink2URL: https://datasheet.ciiva.com/2453/pyu-r-int-thick-7-2453910.pdf?src-supplier=Digi-Key; ComponentLink2Description: https://datasheet.ciiva.com/2453/pyu-r-int-thick-7-2453910.pdf?src-supplier=Digi-Key; ComponentLink3URL: https://datasheet.ciiva.com/2453/pyu-r-int-thick-7-2453911.pdf?src-supplier=Digi-Key; ComponentLink3Description: https://datasheet.ciiva.com/2453/pyu-r-int-thick-7-2453911.pdf?src-supplier=Digi-Key; ComponentLink4URL: https://datasheet.ciiva.com/2453/pyu-r-int-thick-7-2453912.pdf?src-supplier=Digi-Key; ComponentLink4Description: https://datasheet.ciiva.com/2453/pyu-r-int-thick-7-2453912.pdf?src-supplier=Digi-Key; ComponentLink5URL: https://datasheet.ciiva.com/22747/443971-22747525.pdf?src-supplier=Element14; ComponentLink5Description: https://datasheet.ciiva.com/22747/443971-22747525.pdf?src-supplier=Element14
footprint 0603 RES
simulation model RESISTOR (Resistor)
signal-integrity model Res
pins: 1, 2

## Res 0603 49.9R 1%
designator R?, comment 49.9R 1%  Supplier Part Number 1: 311-49.9HRCT-ND
Yageo RC Series Thick Film Surface Mount Resistor 0603 Case 49.9 1% 0.1W 100ppm/C; Manufacturer Part Number: RC0603FR-0749R9L; Power Rating: 100mW; Temperature Coefficient: 100ppm/°C; Voltage Rating (DC): 50V; Supplier 1: Digi-Key; Manufacturer: Yageo; RoHS: Yes; Category: Chip SMD Resistors; Stock 1: 4413318; Pricing 1: 1=0.10000, 10=0.02400, 100=0.00970, 1000=0.00436, 2500=0.00378 (USD); Case/Package: 0603; Number of Pins: 2; Case Code (Imperial): 0603; Case Code (Metric): 1608; Size Code: 0603; Min Operating Temperature: -55°C; Max Operating Temperature: 155°C; Packaging: Tape and Reel; Resistance: 49.9R; Tolerance: 1%; Resistor Type: Thick Film; Features: Moisture Resistant; Series: RC; Max Power Dissipation: 100mW; Number of Terminations: 2; Construction: Rectangular; Voltage Rating: 50V; Termination: SMD/SMT; Technology: THICK FILM; Resistance Tolerance: 1%; Length: 1.6mm; Height: 0.45mm; Depth: 0.8mm; Military Standard: Not; Lead Free: Lead Free; RoHS Compliant: Yes; REACH SVHC: No SVHC; ComponentLink1URL: https://datasheet.ciiva.com/11808/0900766b80f96399-11808223.pdf?src-supplier=RSComponents; ComponentLink1Description: https://datasheet.ciiva.com/11808/0900766b80f96399-11808223.pdf?src-supplier=RSComponents; ComponentLink2URL: https://datasheet.ciiva.com/22747/443971-22747527.pdf?src-supplier=Element14; ComponentLink2Description: https://datasheet.ciiva.com/22747/443971-22747527.pdf?src-supplier=Element14; ComponentLink3URL: https://datasheet.ciiva.com/15189/getdatasheetpartid-325421-15189750.pdf?src-supplier=Verical; ComponentLink3Description: https://datasheet.ciiva.com/15189/getdatasheetpartid-325421-15189750.pdf?src-supplier=Verical
footprint 0603 RES
simulation model RESISTOR (Resistor)
signal-integrity model Res
pins: 1, 2

## Res 0603 90.9K 1%
designator R?, comment 90.9K 1%  Supplier Part Number 1: 311-90.9KHRCT-ND
Res Thick Film 0603 90.9K Ohm 1% 0.1W(1/10W) ±100ppm/C Epoxy SMD T/R; Manufacturer: Yageo; Manufacturer Part Number: RC0603FR-0790K9L; Resistance: 90.9kR; Voltage Rating (DC): 50V; Power Rating: 100mW; Voltage Rating: 75V; Temperature Coefficient: 100ppm/°C; Supplier 1: Digi-Key; RoHS: Yes; Category: Chip SMD Resistors; Stock 1: 655755; Pricing 1: 1=0.10000, 10=0.02400, 100=0.00970, 1000=0.00436, 2500=0.00378 (USD); Case/Package: 0603; Case Code (Imperial): 0603; Case Code (Metric): 1608; Weight: 7.1E-05oz; Size Code: 0603; Min Operating Temperature: -55°C; Max Operating Temperature: 155°C; Tolerance: 1%; Packaging: Tape and Reel; Features: Moisture Resistant; Series: RC; Termination: SMD/SMT; Resistor Type: Thick Film; Max Power Dissipation: 100mW; Number of Terminations: 2; Construction: Rectangular; Length: 1.6mm; Width: 0.8mm; Height: 0.45mm; Depth: 0.8mm; Lead Free: Lead Free; RoHS Compliant: Yes; Military Standard: Not; ComponentLink1URL: https://datasheet.ciiva.com/15189/getdatasheetpartid-325203-15189835.pdf?src-supplier=Verical; ComponentLink1Description: https://datasheet.ciiva.com/15189/getdatasheetpartid-325203-15189835.pdf?src-supplier=Verical
footprint 0603 RES
simulation model RESISTOR (Resistor)
signal-integrity model Res
pins: 1, 2

## Res 0603 100R 1%
designator R?, comment 100R 1%  Supplier Part Number 1: P100HCT-ND
RES SMD 100 OHM 1% 1/10W 0603; Manufacturer: Panasonic; Manufacturer Part Number: ERJ3EKF1000V; Power Rating: 100mW; Voltage Rating: 75V; Temperature Coefficient: 100ppm/°C; Supplier 1: Digi-Key; RoHS: Yes; Category: Chip SMD Resistors; Stock 1: 1986191; Pricing 1: 1=0.10000, 10=0.03700, 100=0.01490, 1000=0.00670, 2500=0.00582 (USD); Mount: Surface Mount; Case/Package: 0603; Number of Pins: 2; Case Code (Imperial): 0603; Case Code (Metric): 1608; Contact Plating: Tin; Weight: 7.1E-05oz; Size Code: 0603; Min Operating Temperature: -55°C; Max Operating Temperature: 155°C; Resistance: 100R; Tolerance: 1%; Packaging: Tape and Reel; Package Quantity: 5000; Resistor Type: Thick Film; Termination: SMD/SMT; Number of Terminations: 2; Max Power Dissipation: 100mW; Voltage Rating (DC): 75V; Features: Automotive AEC-Q200; Series: ERJ; Resistance Tolerance: 1%; Construction: Rectangular; Length: 1.6mm; Width: 0.8mm; Height: 0.45mm; Depth: 0.8mm; Radiation Hardening: No; REACH SVHC: No SVHC; Military Standard: Not; Lead Free: Lead Free; RoHS Compliant: Yes; ComponentLink1URL: https://datasheet.ciiva.com/34303/1987450-34303565.pdf?src-supplier=Jameco; ComponentLink1Description: https://datasheet.ciiva.com/34303/1987450-34303565.pdf?src-supplier=Jameco; ComponentLink2URL: https://datasheet.ciiva.com/48530/aoa0000ce2-48530986.pdf?src-supplier=Avnet; ComponentLink2Description: https://datasheet.ciiva.com/48530/aoa0000ce2-48530986.pdf?src-supplier=Avnet; ComponentLink3URL: https://datasheet.ciiva.com/24159/aoa0000ce2-24159753.pdf?src-supplier=Mouser; ComponentLink3Description: https://datasheet.ciiva.com/24159/aoa0000ce2-24159753.pdf?src-supplier=Mouser; ComponentLink4URL: https://datasheet.ciiva.com/9186/aoa0000ce2-9186725.pdf?src-supplier=Avnet; ComponentLink4Description: https://datasheet.ciiva.com/9186/aoa0000ce2-9186725.pdf?src-supplier=Avnet; ComponentLink5URL: https://datasheet.ciiva.com/30088/aoa0000ce2-30088649.pdf?src-supplier=Onlinecomponents.com; ComponentLink5Description: https://datasheet.ciiva.com/30088/aoa0000ce2-30088649.pdf?src-supplier=Onlinecomponents.com; ComponentLink6URL: https://datasheet.ciiva.com/16762/70260748-16762666.pdf?src-supplier=Allied+Electronics; ComponentLink6Description: https://datasheet.ciiva.com/16762/70260748-16762666.pdf?src-supplier=Allied+Electronics; ComponentLink7URL: https://datasheet.ciiva.com/16765/70260748-16765766.pdf?src-supplier=Allied+Electronics; ComponentLink7Description: https://datasheet.ciiva.com/16765/70260748-16765766.pdf?src-supplier=Allied+Electronics; ComponentLink8URL: https://datasheet.ciiva.com/7830/aoa0000ce2-7830728.pdf?src-supplier=Element14; ComponentLink8Description: https://datasheet.ciiva.com/7830/aoa0000ce2-7830728.pdf?src-supplier=Element14; ComponentLink9URL: https://datasheet.ciiva.com/22667/1678782-22667887.pdf?src-supplier=Element14; ComponentLink9Description: https://datasheet.ciiva.com/22667/1678782-22667887.pdf?src-supplier=Element14; ComponentLink10URL: https://datasheet.ciiva.com/46372/1678782-46372726.pdf?src-supplier=Element14; ComponentLink10Description: https://datasheet.ciiva.com/46372/1678782-46372726.pdf?src-supplier=Element14; ComponentLink11URL: https://datasheet.ciiva.com/46372/1678782-46372727.pdf?src-supplier=Element14; ComponentLink11Description: https://datasheet.ciiva.com/46372/1678782-46372727.pdf?src-supplier=Element14; ComponentLink12URL: https://datasheet.ciiva.com/17207/aoa0000ce2-17207983.pdf?src-supplier=Avnet+Europe; ComponentLink12Description: https://datasheet.ciiva.com/17207/aoa0000ce2-17207983.pdf?src-supplier=Avnet+Europe
footprint 0603 RES
simulation model RESISTOR (Resistor)
signal-integrity model Res
pins: 1, 2

## Res 0603 200K 1%
designator R?, comment 200K 1%  Supplier Part Number 1: 311-200KHRCT-ND
YAGEO - RC0603FR-07200KL - SMD Chip Resistor, 0603 [1608 Metric], 200 kohm, RC Series, 75 V, Thick Film, 100 mW; Resistance: 200kR; Temperature Coefficient: 100ppm/°C; Voltage Rating (DC): 50V; Power Rating: 100mW; Supplier 1: Digi-Key; Manufacturer: Yageo; Manufacturer Part Number: RC0603FR-07200KL; RoHS: Yes; Category: Chip SMD Resistors; Stock 1: 496079; Pricing 1: 1=0.10000, 10=0.02400, 100=0.00970, 1000=0.00436, 2500=0.00378 (USD); Case/Package: 0603; Number of Pins: 2; Case Code (Metric): 1608; Case Code (Imperial): 0603; Size Code: 0603; Min Operating Temperature: -55°C; Max Operating Temperature: 155°C; Tolerance: 1%; Packaging: Tape and Reel; Resistor Type: Thick Film; Voltage Rating: 50V; Package Quantity: 1; Number of Terminations: 2; Termination: SMD/SMT; Max Power Dissipation: 100mW; Features: Moisture Resistant; Series: RC; Resistance Tolerance: 1%; Construction: Rectangular; Length: 1.6mm; Width: 0.031inch; Height: 0.022inch; Depth: 0.8mm; Lead Free: Lead Free; REACH SVHC: No SVHC; Military Standard: Not; RoHS Compliant: Yes; ComponentLink1URL: https://datasheet.ciiva.com/2453/pyu-r-int-thick-7-2453958.pdf?src-supplier=Digi-Key; ComponentLink1Description: https://datasheet.ciiva.com/2453/pyu-r-int-thick-7-2453958.pdf?src-supplier=Digi-Key; ComponentLink2URL: https://datasheet.ciiva.com/2453/pyu-r-int-thick-7-2453959.pdf?src-supplier=Digi-Key; ComponentLink2Description: https://datasheet.ciiva.com/2453/pyu-r-int-thick-7-2453959.pdf?src-supplier=Digi-Key; ComponentLink3URL: https://datasheet.ciiva.com/2453/pyu-r-int-thick-7-2453960.pdf?src-supplier=Digi-Key; ComponentLink3Description: https://datasheet.ciiva.com/2453/pyu-r-int-thick-7-2453960.pdf?src-supplier=Digi-Key
footprint 0603 RES
simulation model RESISTOR (Resistor)
signal-integrity model Res
pins: 1, 2

## Res 0603 499R 1%
designator R?, comment 499R 1%  Supplier Part Number 1: 311-4.99HRCT-ND
Res Thick Film 0603 4.99 Ohm 1% 0.1W(1/10W) ±200ppm/C Molded SMD Paper T/R; Manufacturer: Yageo; Manufacturer Part Number: RC0603FR-074R99L; Resistance: 4.99R; Power Rating: 100mW; Temperature Coefficient: 200ppm/°C; Voltage Rating (DC): 50V; Supplier 1: Digi-Key; RoHS: Yes; Category: Chip SMD Resistors; Stock 1: 336286; Pricing 1: 1=0.10000, 10=0.04800, 100=0.01940, 1000=0.00872, 2500=0.00756 (USD); Case/Package: 0603; Case Code (Metric): 1608; Case Code (Imperial): 0603; Size Code: 0603; Contact Plating: Tin,Matte; Min Operating Temperature: -55°C; Max Operating Temperature: 155°C; Tolerance: 1%; Packaging: Tape and Reel; Resistor Type: Thick Film; Number of Terminations: 2; Max Power Dissipation: 100mW; Features: Moisture Resistant; Series: RC; Construction: Rectangular; Package Quantity: 1; Length: 0.063inch; Width: 0.031inch; Height: 0.022inch; Depth: 0.8mm; Military Standard: Not; Lead Free: Lead Free; RoHS Compliant: Yes; ComponentLink1URL: https://datasheet.ciiva.com/8892/pyu-rc0603-51-rohs-l-4-8892790.pdf?src-supplier=Avnet; ComponentLink1Description: https://datasheet.ciiva.com/8892/pyu-rc0603-51-rohs-l-4-8892790.pdf?src-supplier=Avnet; ComponentLink2URL: https://datasheet.ciiva.com/2456/pyu-r-int-thick-7-2456969.pdf?src-supplier=Digi-Key; ComponentLink2Description: https://datasheet.ciiva.com/2456/pyu-r-int-thick-7-2456969.pdf?src-supplier=Digi-Key; ComponentLink3URL: https://datasheet.ciiva.com/2456/pyu-r-int-thick-7-2456970.pdf?src-supplier=Digi-Key; ComponentLink3Description: https://datasheet.ciiva.com/2456/pyu-r-int-thick-7-2456970.pdf?src-supplier=Digi-Key; ComponentLink4URL: https://datasheet.ciiva.com/2456/pyu-r-int-thick-7-2456971.pdf?src-supplier=Digi-Key; ComponentLink4Description: https://datasheet.ciiva.com/2456/pyu-r-int-thick-7-2456971.pdf?src-supplier=Digi-Key
footprint 0603 RES
simulation model RESISTOR (Resistor)
signal-integrity model Res
pins: 1, 2

## Res 0603 template
designator R?, comment 100K 1%
Resistor
footprint 0603 RES
simulation model RESISTOR (Resistor)
signal-integrity model Res
pins: 1, 2